# EAGLE library part USB-MINIB (library Connector)
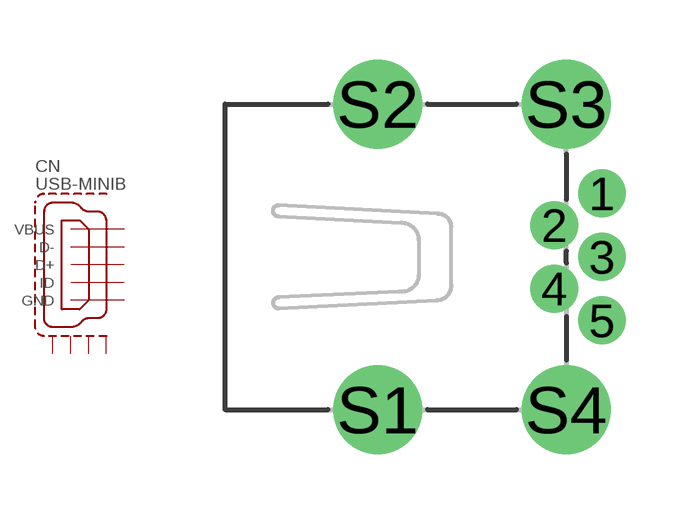
[diagram p13: symbol with the pads of USB-MINIB; footprint USB-MINIB]

Designator prefix CN

## USB-MINIB  [USB-MINIB]
1  VBUS  pas
2  D-  pas
3  D+  pas
4  ID  pas
5  GND  pas
S1  S1  pas
S2  S2  pas
S3  S3  pas
S4  S4  pas

## Footprint USB-MINIB (pad centres in mm)
drill 0.7: 1 3.15,1.6; 2 1.95,0.8; 3 3.15,0; 4 1.95,-0.8; 5 3.15,-1.6
drill 1.5: S1 -2.5,-3.85; S2 -2.5,3.85; S3 2.25,3.85; S4 2.25,-3.85